# EAGLE library part TDA8708A (library Philips-semiconductors2)
The TDA8708A is an analog input interface for video signal processing. It includes a video amplifier with clamp and gain control, an 8-bit analog-to-digital converter (ADC) with a sampling rate of 32 MHz and an input selector.
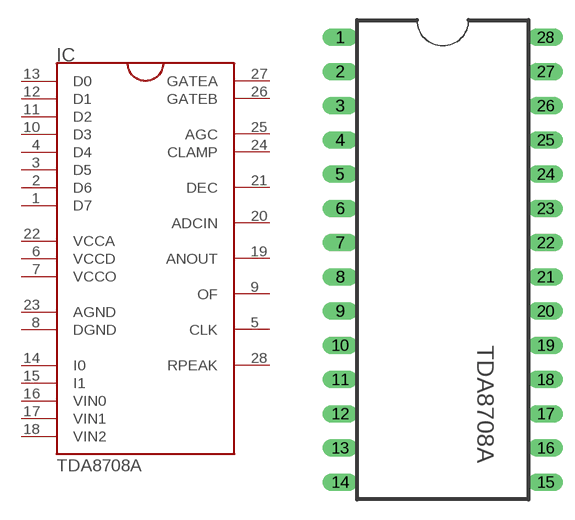
[diagram p72: symbol with the pads of TDA8708A; footprint TDA8708A]

Designator prefix IC

## TDA8708A  [TDA8708A]
1  D7  out
2  D6  out
3  D5  out
4  D4  out
5  CLK  in
6  VCCD  sup
7  VCCO  sup
8  DGND  sup
9  OF  in
10  D3  out
11  D2  out
12  D1  out
13  D0  out
14  I0  sup
15  I1  sup
16  VIN0  sup
17  VIN1  sup
18  VIN2  sup
19  ANOUT  out
20  ADCIN  in
21  DEC  in
22  VCCA  sup
23  AGND  sup
24  CLAMP  in
25  AGC  in
26  GATEB  in
27  GATEA  in
28  RPEAK  in

## Footprint TDA8708A (pad centres in mm)
drill 0.8 long: 1 -7.62,15.24; 2 -7.62,12.7; 3 -7.62,10.16; 4 -7.62,7.62; 5 -7.62,5.08; 6 -7.62,2.54; 7 -7.62,0; 8 -7.62,-2.54; 9 -7.62,-5.08; 10 -7.62,-7.62; 11 -7.62,-10.16; 12 -7.62,-12.7; 13 -7.62,-15.24; 14 -7.62,-17.78; 15 7.62,-17.78; 16 7.62,-15.24; 17 7.62,-12.7; 18 7.62,-10.16; 19 7.62,-7.62; 20 7.62,-5.08; 21 7.62,-2.54; 22 7.62,0; 23 7.62,2.54; 24 7.62,5.08; 25 7.62,7.62; 26 7.62,10.16; 27 7.62,12.7; 28 7.62,15.24